# Altium schematic symbol library kmilo17pet-LT_PMIC_LT.SchLib: 2252 symbols (part 1 of 124)
Pins are listed as number, name and electrical type; pins without a type are passive.

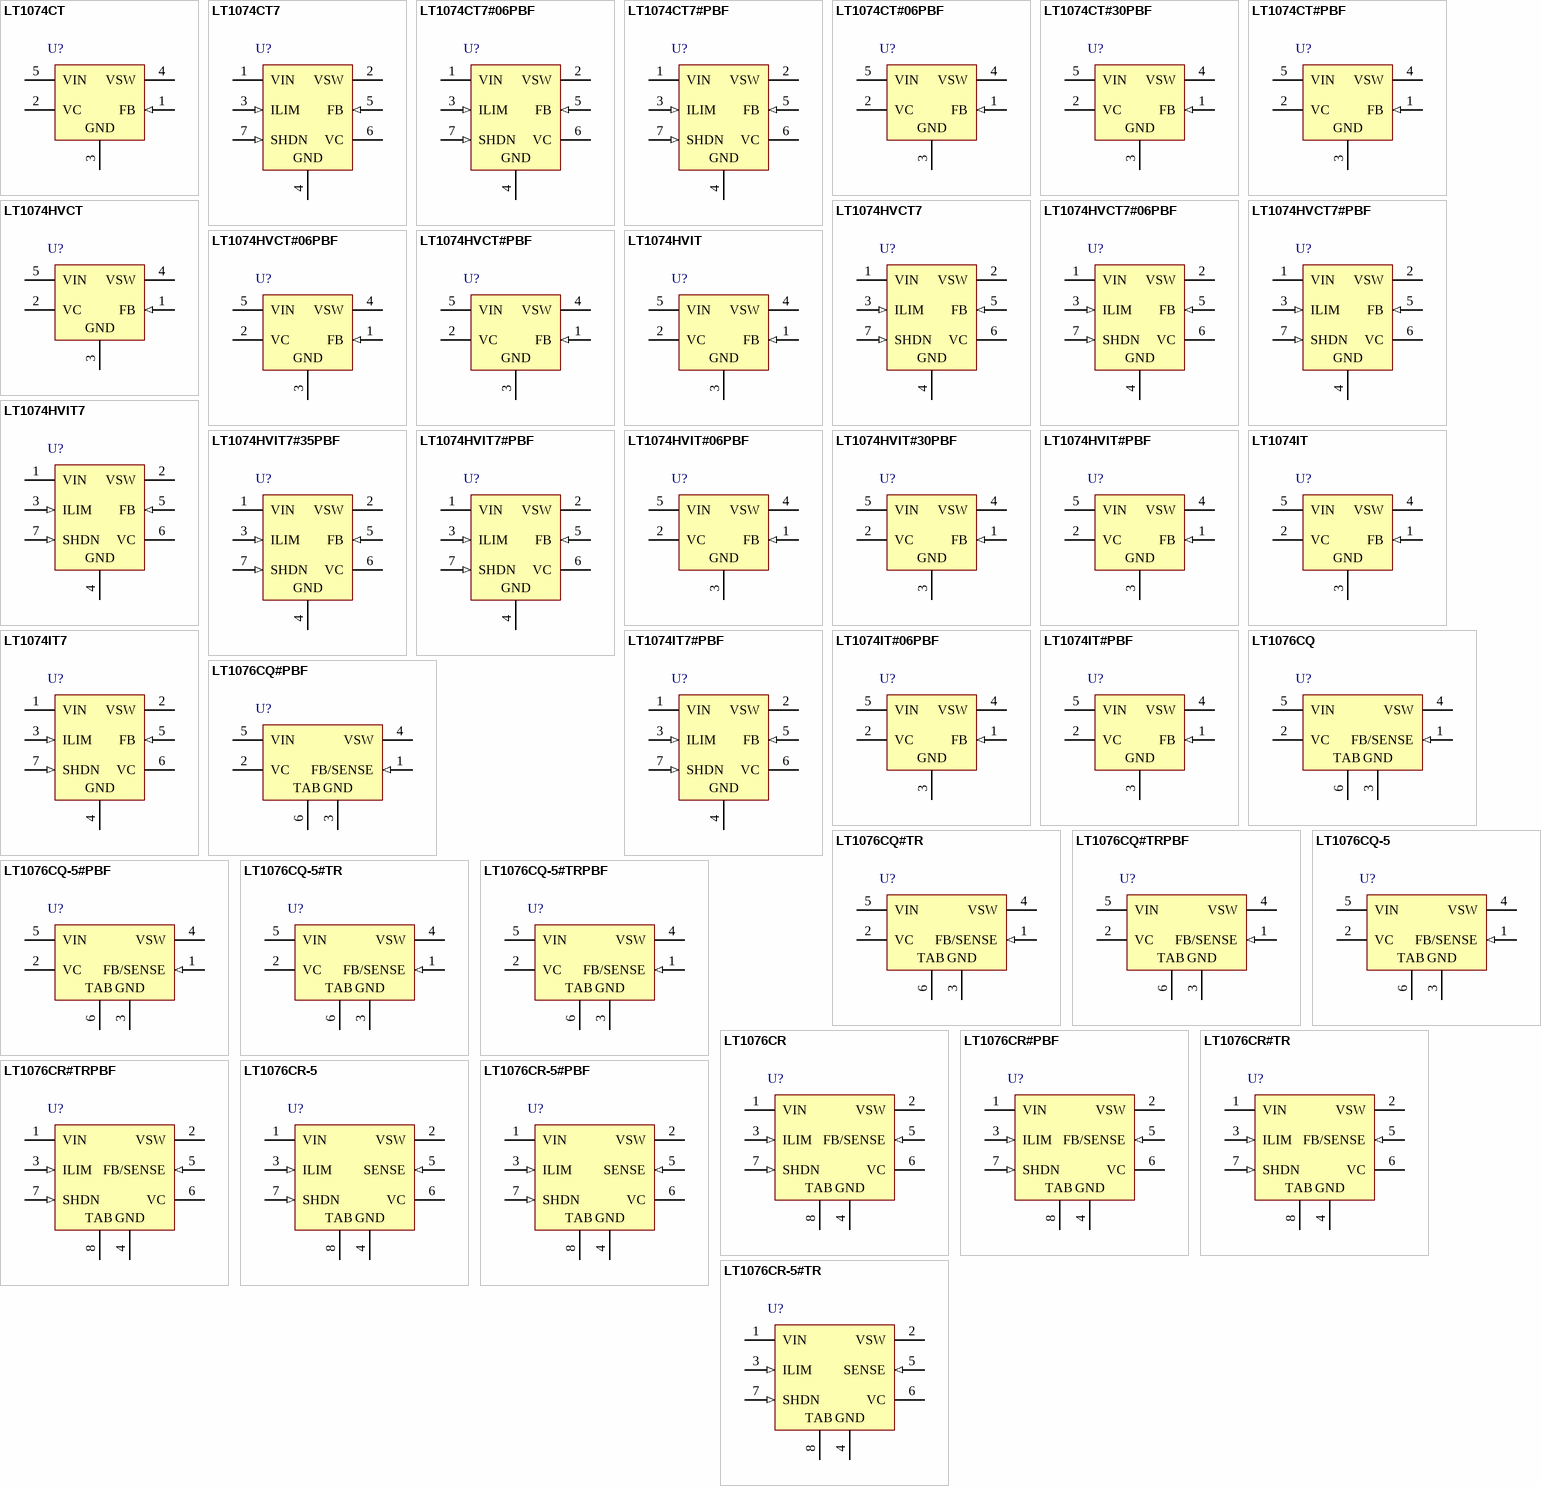
[diagram p0: symbols LT1074CT to LT1076CR-5#TR]

## LT1074CT
designator U?
Step-Down Switching Regulator, 5-pin FM (T-5), 0 to 70 degC; Manufacturer: Linear Technology; PartNumber: LT1074CT; Number of Outputs: 1; PackageReference: T-5; PackageDescription: 5-Pin Plastic TO-220 (Standard), Body 10.224 x 8.89 mm, Pitch 1.7 mm; Supplier 1: Digi-Key; Supplier Part Number 1: LT1074CT-ND; RoHS: FALSE
footprint LT-T-5-S (FM, 5-Leads, Body 10.55x4.6mm, Pitch 1.7mm)
pins: 1 FB (in) "The feedback pin is the inverting input of an error amplifier which controls the regulator output by adjusting duty cycle. The noninverting input is internally connected to a trimmed 2.21V reference. Input bias current is (See Datasheet)", 2 VC, 3 GND (power) "It might seem unusual to describe a ground pin, but in the case of regulators, the ground pin must be connected properly to ensure good load regulation. The internal reference voltage is referenced to the ground pin; so any (See Datasheet)", 4 VSW (power), 5 VIN (power) "The VIN pin is both the supply voltage for internal control circuitry and one end of the high current switch. It is important, especially at low input voltages, that this pin be bypassed with a low ESR, and low inductance (See Datasheet)"

## LT1074CT7
designator U?
Step-Down Switching Regulator, 7-pin FM (T7-7), 0 to 70 degC; Manufacturer: Linear Technology; PartNumber: LT1074CT7; Number of Outputs: 1; PackageReference: T7-7; PackageDescription: 7-Pin Plastic TO-220 (Straight Lead), Body 10.224 x 4.382 mm, Pitch 1.27 mm; Supplier 1: Digi-Key; Supplier Part Number 1: LT1074CT7-ND; RoHS: FALSE
footprint LT-T7-7-S_V (FM, 7-Leads, Body 10.55x4.6mm, Pitch 1.27mm)
pins: 1 VIN (power) "The VIN pin is both the supply voltage for internal control circuitry and one end of the high current switch.", 2 VSW (power), 3 ILIM (in) "The ILIM pin is used to reduce current limit below the preset value of 6.5A.", 4 GND (power) "It might seem unusual to describe a ground pin, but in the case of regulators, the ground pin must be connected properly to ensure good load regulation.", 5 FB (in) "The feedback pin is the inverting input of an error amplifier which controls the regulator output by adjusting duty cycle.", 6 VC, 7 SHDN (in) "The shutdown pin is used for undervoltage lockout, micropower shutdown, soft-start, delayed start, or as a general purpose on/off control of the regulator output."

## LT1074CT7#06PBF
designator U?
Step-Down Switching Regulator, 7-pin FM (T7-7), 0 to 70 degC, Pb-Free; Manufacturer: Linear Technology; PartNumber: LT1074CT7#06PBF; Number of Outputs: 1; PackageReference: T7-7; PackageDescription: 7-Pin Plastic TO-220 (Straight Lead), Body 10.224 x 4.382 mm, Pitch 1.27 mm; Supplier 1: Digi-Key; Supplier Part Number 1: LT1074CT7#06PBF-ND; RoHS: TRUE
footprint LT-T7-7-S_V (FM, 7-Leads, Body 10.55x4.6mm, Pitch 1.27mm)
pins: 1 VIN (power) "The VIN pin is both the supply voltage for internal control circuitry and one end of the high current switch.", 2 VSW (power), 3 ILIM (in) "The ILIM pin is used to reduce current limit below the preset value of 6.5A.", 4 GND (power) "It might seem unusual to describe a ground pin, but in the case of regulators, the ground pin must be connected properly to ensure good load regulation.", 5 FB (in) "The feedback pin is the inverting input of an error amplifier which controls the regulator output by adjusting duty cycle.", 6 VC, 7 SHDN (in) "The shutdown pin is used for undervoltage lockout, micropower shutdown, soft-start, delayed start, or as a general purpose on/off control of the regulator output."

## LT1074CT7#PBF
designator U?
Step-Down Switching Regulator, 7-pin FM (T7-7), 0 to 70 degC, Pb-Free; Manufacturer: Linear Technology; PartNumber: LT1074CT7#PBF; Number of Outputs: 1; PackageReference: T7-7; PackageDescription: 7-Pin Plastic TO-220 (Straight Lead), Body 10.224 x 4.382 mm, Pitch 1.27 mm; Supplier 1: Digi-Key; Supplier Part Number 1: LT1074CT7#PBF-ND; RoHS: TRUE
footprint LT-T7-7-S_V (FM, 7-Leads, Body 10.55x4.6mm, Pitch 1.27mm)
pins: 1 VIN (power) "The VIN pin is both the supply voltage for internal control circuitry and one end of the high current switch.", 2 VSW (power), 3 ILIM (in) "The ILIM pin is used to reduce current limit below the preset value of 6.5A.", 4 GND (power) "It might seem unusual to describe a ground pin, but in the case of regulators, the ground pin must be connected properly to ensure good load regulation.", 5 FB (in) "The feedback pin is the inverting input of an error amplifier which controls the regulator output by adjusting duty cycle.", 6 VC, 7 SHDN (in) "The shutdown pin is used for undervoltage lockout, micropower shutdown, soft-start, delayed start, or as a general purpose on/off control of the regulator output."

## LT1074CT#06PBF
designator U?
Step-Down Switching Regulator, 5-pin FM (T-5), 0 to 70 degC, Pb-Free; Manufacturer: Linear Technology; PartNumber: LT1074CT#06PBF; Number of Outputs: 1; PackageReference: T-5; PackageDescription: 5-Pin Plastic TO-220 (Standard), Body 10.224 x 8.89 mm, Pitch 1.7 mm; Supplier 1: Digi-Key; Supplier Part Number 1: LT1074CT#06PBF-ND; RoHS: TRUE
footprint LT-T-5-S (FM, 5-Leads, Body 10.55x4.6mm, Pitch 1.7mm)
pins: 1 FB (in) "The feedback pin is the inverting input of an error amplifier which controls the regulator output by adjusting duty cycle. The noninverting input is internally connected to a trimmed 2.21V reference. Input bias current is (See Datasheet)", 2 VC, 3 GND (power) "It might seem unusual to describe a ground pin, but in the case of regulators, the ground pin must be connected properly to ensure good load regulation. The internal reference voltage is referenced to the ground pin; so any (See Datasheet)", 4 VSW (power), 5 VIN (power) "The VIN pin is both the supply voltage for internal control circuitry and one end of the high current switch. It is important, especially at low input voltages, that this pin be bypassed with a low ESR, and low inductance (See Datasheet)"

## LT1074CT#30PBF
designator U?
Step-Down Switching Regulator, 5-pin FM (T-5), 0 to 70 degC, Pb-Free; Manufacturer: Linear Technology; PartNumber: LT1074CT#30PBF; Number of Outputs: 1; PackageReference: T-5; PackageDescription: 5-Pin Plastic TO-220 (Standard), Body 10.224 x 8.89 mm, Pitch 1.7 mm; Supplier 1: Digi-Key; Supplier Part Number 1: LT1074CT#30PBF-ND; RoHS: TRUE
footprint LT-T-5-S (FM, 5-Leads, Body 10.55x4.6mm, Pitch 1.7mm)
pins: 1 FB (in) "The feedback pin is the inverting input of an error amplifier which controls the regulator output by adjusting duty cycle. The noninverting input is internally connected to a trimmed 2.21V reference. Input bias current is (See Datasheet)", 2 VC, 3 GND (power) "It might seem unusual to describe a ground pin, but in the case of regulators, the ground pin must be connected properly to ensure good load regulation. The internal reference voltage is referenced to the ground pin; so any (See Datasheet)", 4 VSW (power), 5 VIN (power) "The VIN pin is both the supply voltage for internal control circuitry and one end of the high current switch. It is important, especially at low input voltages, that this pin be bypassed with a low ESR, and low inductance (See Datasheet)"

## LT1074CT#PBF
designator U?
Step-Down Switching Regulator, 5-pin FM (T-5), 0 to 70 degC, Pb-Free; Manufacturer: Linear Technology; PartNumber: LT1074CT#PBF; Number of Outputs: 1; PackageReference: T-5; PackageDescription: 5-Pin Plastic TO-220 (Standard), Body 10.224 x 8.89 mm, Pitch 1.7 mm; Supplier 1: Digi-Key; Supplier Part Number 1: LT1074CT#PBF-ND; RoHS: TRUE
footprint LT-T-5-S (FM, 5-Leads, Body 10.55x4.6mm, Pitch 1.7mm)
pins: 1 FB (in) "The feedback pin is the inverting input of an error amplifier which controls the regulator output by adjusting duty cycle. The noninverting input is internally connected to a trimmed 2.21V reference. Input bias current is (See Datasheet)", 2 VC, 3 GND (power) "It might seem unusual to describe a ground pin, but in the case of regulators, the ground pin must be connected properly to ensure good load regulation. The internal reference voltage is referenced to the ground pin; so any (See Datasheet)", 4 VSW (power), 5 VIN (power) "The VIN pin is both the supply voltage for internal control circuitry and one end of the high current switch. It is important, especially at low input voltages, that this pin be bypassed with a low ESR, and low inductance (See Datasheet)"

## LT1074HVCT
designator U?
Step-Down Switching Regulator, 5-pin FM (T-5), 0 to 70 degC; Manufacturer: Linear Technology; PartNumber: LT1074HVCT; Number of Outputs: 1; PackageReference: T-5; PackageDescription: 5-Pin Plastic TO-220 (Standard), Body 10.224 x 8.89 mm, Pitch 1.7 mm; Supplier 1: Digi-Key; Supplier Part Number 1: LT1074HVCT-ND; RoHS: FALSE
footprint LT-T-5-S (FM, 5-Leads, Body 10.55x4.6mm, Pitch 1.7mm)
pins: 1 FB (in) "The feedback pin is the inverting input of an error amplifier which controls the regulator output by adjusting duty cycle. The noninverting input is internally connected to a trimmed 2.21V reference. Input bias current is (See Datasheet)", 2 VC, 3 GND (power) "It might seem unusual to describe a ground pin, but in the case of regulators, the ground pin must be connected properly to ensure good load regulation. The internal reference voltage is referenced to the ground pin; so any (See Datasheet)", 4 VSW (power), 5 VIN (power) "The VIN pin is both the supply voltage for internal control circuitry and one end of the high current switch. It is important, especially at low input voltages, that this pin be bypassed with a low ESR, and low inductance (See Datasheet)"

## LT1074HVCT7
designator U?
Step-Down Switching Regulator, 7-pin FM (T7-7), 0 to 70 degC; Manufacturer: Linear Technology; PartNumber: LT1074HVCT7; Number of Outputs: 1; PackageReference: T7-7; PackageDescription: 7-Pin Plastic TO-220 (Straight Lead), Body 10.224 x 4.382 mm, Pitch 1.27 mm; Supplier 1: Digi-Key; Supplier Part Number 1: LT1074HVCT7-ND; RoHS: FALSE
footprint LT-T7-7-S_V (FM, 7-Leads, Body 10.55x4.6mm, Pitch 1.27mm)
pins: 1 VIN (power) "The VIN pin is both the supply voltage for internal control circuitry and one end of the high current switch.", 2 VSW (power), 3 ILIM (in) "The ILIM pin is used to reduce current limit below the preset value of 6.5A.", 4 GND (power) "It might seem unusual to describe a ground pin, but in the case of regulators, the ground pin must be connected properly to ensure good load regulation.", 5 FB (in) "The feedback pin is the inverting input of an error amplifier which controls the regulator output by adjusting duty cycle.", 6 VC, 7 SHDN (in) "The shutdown pin is used for undervoltage lockout, micropower shutdown, soft-start, delayed start, or as a general purpose on/off control of the regulator output."

## LT1074HVCT7#06PBF
designator U?
Step-Down Switching Regulator, 7-pin FM (T7-7), 0 to 70 degC, Pb-Free; Manufacturer: Linear Technology; PartNumber: LT1074HVCT7#06PBF; Number of Outputs: 1; PackageReference: T7-7; PackageDescription: 7-Pin Plastic TO-220 (Straight Lead), Body 10.224 x 4.382 mm, Pitch 1.27 mm; Supplier 1: Digi-Key; Supplier Part Number 1: LT1074HVCT7#06PBF-ND; RoHS: TRUE
footprint LT-T7-7-S_V (FM, 7-Leads, Body 10.55x4.6mm, Pitch 1.27mm)
pins: 1 VIN (power) "The VIN pin is both the supply voltage for internal control circuitry and one end of the high current switch.", 2 VSW (power), 3 ILIM (in) "The ILIM pin is used to reduce current limit below the preset value of 6.5A.", 4 GND (power) "It might seem unusual to describe a ground pin, but in the case of regulators, the ground pin must be connected properly to ensure good load regulation.", 5 FB (in) "The feedback pin is the inverting input of an error amplifier which controls the regulator output by adjusting duty cycle.", 6 VC, 7 SHDN (in) "The shutdown pin is used for undervoltage lockout, micropower shutdown, soft-start, delayed start, or as a general purpose on/off control of the regulator output."

## LT1074HVCT7#PBF
designator U?
Step-Down Switching Regulator, 7-pin FM (T7-7), 0 to 70 degC, Pb-Free; Manufacturer: Linear Technology; PartNumber: LT1074HVCT7#PBF; Number of Outputs: 1; PackageReference: T7-7; PackageDescription: 7-Pin Plastic TO-220 (Straight Lead), Body 10.224 x 4.382 mm, Pitch 1.27 mm; Supplier 1: Digi-Key; Supplier Part Number 1: LT1074HVCT7#PBF-ND; RoHS: TRUE
footprint LT-T7-7-S_V (FM, 7-Leads, Body 10.55x4.6mm, Pitch 1.27mm)
pins: 1 VIN (power) "The VIN pin is both the supply voltage for internal control circuitry and one end of the high current switch.", 2 VSW (power), 3 ILIM (in) "The ILIM pin is used to reduce current limit below the preset value of 6.5A.", 4 GND (power) "It might seem unusual to describe a ground pin, but in the case of regulators, the ground pin must be connected properly to ensure good load regulation.", 5 FB (in) "The feedback pin is the inverting input of an error amplifier which controls the regulator output by adjusting duty cycle.", 6 VC, 7 SHDN (in) "The shutdown pin is used for undervoltage lockout, micropower shutdown, soft-start, delayed start, or as a general purpose on/off control of the regulator output."

## LT1074HVCT#06PBF
designator U?
Step-Down Switching Regulator, 5-pin FM (T-5), 0 to 70 degC, Pb-Free; Manufacturer: Linear Technology; PartNumber: LT1074HVCT#06PBF; Number of Outputs: 1; PackageReference: T-5; PackageDescription: 5-Pin Plastic TO-220 (Standard), Body 10.224 x 8.89 mm, Pitch 1.7 mm; Supplier 1: Digi-Key; Supplier Part Number 1: LT1074HVCT#06PBF-ND; RoHS: TRUE
footprint LT-T-5-S (FM, 5-Leads, Body 10.55x4.6mm, Pitch 1.7mm)
pins: 1 FB (in) "The feedback pin is the inverting input of an error amplifier which controls the regulator output by adjusting duty cycle. The noninverting input is internally connected to a trimmed 2.21V reference. Input bias current is (See Datasheet)", 2 VC, 3 GND (power) "It might seem unusual to describe a ground pin, but in the case of regulators, the ground pin must be connected properly to ensure good load regulation. The internal reference voltage is referenced to the ground pin; so any (See Datasheet)", 4 VSW (power), 5 VIN (power) "The VIN pin is both the supply voltage for internal control circuitry and one end of the high current switch. It is important, especially at low input voltages, that this pin be bypassed with a low ESR, and low inductance (See Datasheet)"

## LT1074HVCT#PBF
designator U?
Step-Down Switching Regulator, 5-pin FM (T-5), 0 to 70 degC, Pb-Free; Manufacturer: Linear Technology; PartNumber: LT1074HVCT#PBF; Number of Outputs: 1; PackageReference: T-5; PackageDescription: 5-Pin Plastic TO-220 (Standard), Body 10.224 x 8.89 mm, Pitch 1.7 mm; Supplier 1: Digi-Key; Supplier Part Number 1: LT1074HVCT#PBF-ND; RoHS: TRUE
footprint LT-T-5-S (FM, 5-Leads, Body 10.55x4.6mm, Pitch 1.7mm)
pins: 1 FB (in) "The feedback pin is the inverting input of an error amplifier which controls the regulator output by adjusting duty cycle. The noninverting input is internally connected to a trimmed 2.21V reference. Input bias current is (See Datasheet)", 2 VC, 3 GND (power) "It might seem unusual to describe a ground pin, but in the case of regulators, the ground pin must be connected properly to ensure good load regulation. The internal reference voltage is referenced to the ground pin; so any (See Datasheet)", 4 VSW (power), 5 VIN (power) "The VIN pin is both the supply voltage for internal control circuitry and one end of the high current switch. It is important, especially at low input voltages, that this pin be bypassed with a low ESR, and low inductance (See Datasheet)"

## LT1074HVIT
designator U?
Step-Down Switching Regulator, 5-pin FM (T-5), -40 to 85 degC; Manufacturer: Linear Technology; PartNumber: LT1074HVIT; Number of Outputs: 1; PackageReference: T-5; PackageDescription: 5-Pin Plastic TO-220 (Standard), Body 10.224 x 8.89 mm, Pitch 1.7 mm; Supplier 1: Digi-Key; Supplier Part Number 1: LT1074HVIT-ND; RoHS: FALSE
footprint LT-T-5-S (FM, 5-Leads, Body 10.55x4.6mm, Pitch 1.7mm)
pins: 1 FB (in) "The feedback pin is the inverting input of an error amplifier which controls the regulator output by adjusting duty cycle. The noninverting input is internally connected to a trimmed 2.21V reference. Input bias current is (See Datasheet)", 2 VC, 3 GND (power) "It might seem unusual to describe a ground pin, but in the case of regulators, the ground pin must be connected properly to ensure good load regulation. The internal reference voltage is referenced to the ground pin; so any (See Datasheet)", 4 VSW (power), 5 VIN (power) "The VIN pin is both the supply voltage for internal control circuitry and one end of the high current switch. It is important, especially at low input voltages, that this pin be bypassed with a low ESR, and low inductance (See Datasheet)"

## LT1074HVIT7
designator U?
Step-Down Switching Regulator, 7-pin FM (T7-7), -40 to 85 degC; Manufacturer: Linear Technology; PartNumber: LT1074HVIT7; Number of Outputs: 1; PackageReference: T7-7; PackageDescription: 7-Pin Plastic TO-220 (Straight Lead), Body 10.224 x 4.382 mm, Pitch 1.27 mm; Supplier 1: Digi-Key; Supplier Part Number 1: LT1074HVIT7-ND; RoHS: FALSE
footprint LT-T7-7-S_V (FM, 7-Leads, Body 10.55x4.6mm, Pitch 1.27mm)
pins: 1 VIN (power) "The VIN pin is both the supply voltage for internal control circuitry and one end of the high current switch.", 2 VSW (power), 3 ILIM (in) "The ILIM pin is used to reduce current limit below the preset value of 6.5A.", 4 GND (power) "It might seem unusual to describe a ground pin, but in the case of regulators, the ground pin must be connected properly to ensure good load regulation.", 5 FB (in) "The feedback pin is the inverting input of an error amplifier which controls the regulator output by adjusting duty cycle.", 6 VC, 7 SHDN (in) "The shutdown pin is used for undervoltage lockout, micropower shutdown, soft-start, delayed start, or as a general purpose on/off control of the regulator output."

## LT1074HVIT7#35PBF
designator U?
Step-Down Switching Regulator, 7-pin FM (T7-7), -40 to 85 degC, Pb-Free; Manufacturer: Linear Technology; PartNumber: LT1074HVIT7#35PBF; Number of Outputs: 1; PackageReference: T7-7; PackageDescription: 7-Pin Plastic TO-220 (Straight Lead), Body 10.224 x 4.382 mm, Pitch 1.27 mm; Supplier 1: Digi-Key; Supplier Part Number 1: LT1074HVIT7#35PBF-ND; RoHS: TRUE
footprint LT-T7-7-S_V (FM, 7-Leads, Body 10.55x4.6mm, Pitch 1.27mm)
pins: 1 VIN (power) "The VIN pin is both the supply voltage for internal control circuitry and one end of the high current switch.", 2 VSW (power), 3 ILIM (in) "The ILIM pin is used to reduce current limit below the preset value of 6.5A.", 4 GND (power) "It might seem unusual to describe a ground pin, but in the case of regulators, the ground pin must be connected properly to ensure good load regulation.", 5 FB (in) "The feedback pin is the inverting input of an error amplifier which controls the regulator output by adjusting duty cycle.", 6 VC, 7 SHDN (in) "The shutdown pin is used for undervoltage lockout, micropower shutdown, soft-start, delayed start, or as a general purpose on/off control of the regulator output."

## LT1074HVIT7#PBF
designator U?
Step-Down Switching Regulator, 7-pin FM (T7-7), -40 to 85 degC, Pb-Free; Manufacturer: Linear Technology; PartNumber: LT1074HVIT7#PBF; Number of Outputs: 1; PackageReference: T7-7; PackageDescription: 7-Pin Plastic TO-220 (Straight Lead), Body 10.224 x 4.382 mm, Pitch 1.27 mm; Supplier 1: Digi-Key; Supplier Part Number 1: LT1074HVIT7#PBF-ND; RoHS: TRUE
footprint LT-T7-7-S_V (FM, 7-Leads, Body 10.55x4.6mm, Pitch 1.27mm)
pins: 1 VIN (power) "The VIN pin is both the supply voltage for internal control circuitry and one end of the high current switch.", 2 VSW (power), 3 ILIM (in) "The ILIM pin is used to reduce current limit below the preset value of 6.5A.", 4 GND (power) "It might seem unusual to describe a ground pin, but in the case of regulators, the ground pin must be connected properly to ensure good load regulation.", 5 FB (in) "The feedback pin is the inverting input of an error amplifier which controls the regulator output by adjusting duty cycle.", 6 VC, 7 SHDN (in) "The shutdown pin is used for undervoltage lockout, micropower shutdown, soft-start, delayed start, or as a general purpose on/off control of the regulator output."

## LT1074HVIT#06PBF
designator U?
Step-Down Switching Regulator, 5-pin FM (T-5), -40 to 85 degC, Pb-Free; Manufacturer: Linear Technology; PartNumber: LT1074HVIT#06PBF; Number of Outputs: 1; PackageReference: T-5; PackageDescription: 5-Pin Plastic TO-220 (Standard), Body 10.224 x 8.89 mm, Pitch 1.7 mm; Supplier 1: Digi-Key; Supplier Part Number 1: LT1074HVIT#06PBF-ND; RoHS: TRUE
footprint LT-T-5-S (FM, 5-Leads, Body 10.55x4.6mm, Pitch 1.7mm)
pins: 1 FB (in) "The feedback pin is the inverting input of an error amplifier which controls the regulator output by adjusting duty cycle. The noninverting input is internally connected to a trimmed 2.21V reference. Input bias current is (See Datasheet)", 2 VC, 3 GND (power) "It might seem unusual to describe a ground pin, but in the case of regulators, the ground pin must be connected properly to ensure good load regulation. The internal reference voltage is referenced to the ground pin; so any (See Datasheet)", 4 VSW (power), 5 VIN (power) "The VIN pin is both the supply voltage for internal control circuitry and one end of the high current switch. It is important, especially at low input voltages, that this pin be bypassed with a low ESR, and low inductance (See Datasheet)"

## LT1074HVIT#30PBF
designator U?
Step-Down Switching Regulator, 5-pin FM (T-5), -40 to 85 degC, Pb-Free; Manufacturer: Linear Technology; PartNumber: LT1074HVIT#30PBF; Number of Outputs: 1; PackageReference: T-5; PackageDescription: 5-Pin Plastic TO-220 (Standard), Body 10.224 x 8.89 mm, Pitch 1.7 mm; Supplier 1: Digi-Key; Supplier Part Number 1: LT1074HVIT#30PBF-ND; RoHS: TRUE
footprint LT-T-5-S (FM, 5-Leads, Body 10.55x4.6mm, Pitch 1.7mm)
pins: 1 FB (in) "The feedback pin is the inverting input of an error amplifier which controls the regulator output by adjusting duty cycle. The noninverting input is internally connected to a trimmed 2.21V reference. Input bias current is (See Datasheet)", 2 VC, 3 GND (power) "It might seem unusual to describe a ground pin, but in the case of regulators, the ground pin must be connected properly to ensure good load regulation. The internal reference voltage is referenced to the ground pin; so any (See Datasheet)", 4 VSW (power), 5 VIN (power) "The VIN pin is both the supply voltage for internal control circuitry and one end of the high current switch. It is important, especially at low input voltages, that this pin be bypassed with a low ESR, and low inductance (See Datasheet)"

## LT1074HVIT#PBF
designator U?
Step-Down Switching Regulator, 5-pin FM (T-5), -40 to 85 degC, Pb-Free; Manufacturer: Linear Technology; PartNumber: LT1074HVIT#PBF; Number of Outputs: 1; PackageReference: T-5; PackageDescription: 5-Pin Plastic TO-220 (Standard), Body 10.224 x 8.89 mm, Pitch 1.7 mm; Supplier 1: Digi-Key; Supplier Part Number 1: LT1074HVIT#PBF-ND; RoHS: TRUE
footprint LT-T-5-S (FM, 5-Leads, Body 10.55x4.6mm, Pitch 1.7mm)
pins: 1 FB (in) "The feedback pin is the inverting input of an error amplifier which controls the regulator output by adjusting duty cycle. The noninverting input is internally connected to a trimmed 2.21V reference. Input bias current is (See Datasheet)", 2 VC, 3 GND (power) "It might seem unusual to describe a ground pin, but in the case of regulators, the ground pin must be connected properly to ensure good load regulation. The internal reference voltage is referenced to the ground pin; so any (See Datasheet)", 4 VSW (power), 5 VIN (power) "The VIN pin is both the supply voltage for internal control circuitry and one end of the high current switch. It is important, especially at low input voltages, that this pin be bypassed with a low ESR, and low inductance (See Datasheet)"

## LT1074IT
designator U?
Step-Down Switching Regulator, 5-pin FM (T-5), -40 to 85 degC; Manufacturer: Linear Technology; PartNumber: LT1074IT; Number of Outputs: 1; PackageReference: T-5; PackageDescription: 5-Pin Plastic TO-220 (Standard), Body 10.224 x 8.89 mm, Pitch 1.7 mm; Supplier 1: Digi-Key; Supplier Part Number 1: LT1074IT-ND; RoHS: FALSE
footprint LT-T-5-S (FM, 5-Leads, Body 10.55x4.6mm, Pitch 1.7mm)
pins: 1 FB (in) "The feedback pin is the inverting input of an error amplifier which controls the regulator output by adjusting duty cycle. The noninverting input is internally connected to a trimmed 2.21V reference. Input bias current is (See Datasheet)", 2 VC, 3 GND (power) "It might seem unusual to describe a ground pin, but in the case of regulators, the ground pin must be connected properly to ensure good load regulation. The internal reference voltage is referenced to the ground pin; so any (See Datasheet)", 4 VSW (power), 5 VIN (power) "The VIN pin is both the supply voltage for internal control circuitry and one end of the high current switch. It is important, especially at low input voltages, that this pin be bypassed with a low ESR, and low inductance (See Datasheet)"

## LT1074IT7
designator U?
Step-Down Switching Regulator, 7-pin FM (T7-7), -40 to 85 degC; Manufacturer: Linear Technology; PartNumber: LT1074IT7; Number of Outputs: 1; PackageReference: T7-7; PackageDescription: 7-Pin Plastic TO-220 (Straight Lead), Body 10.224 x 4.382 mm, Pitch 1.27 mm; Supplier 1: Digi-Key; Supplier Part Number 1: LT1074IT7-ND; RoHS: FALSE
footprint LT-T7-7-S_V (FM, 7-Leads, Body 10.55x4.6mm, Pitch 1.27mm)
pins: 1 VIN (power) "The VIN pin is both the supply voltage for internal control circuitry and one end of the high current switch.", 2 VSW (power), 3 ILIM (in) "The ILIM pin is used to reduce current limit below the preset value of 6.5A.", 4 GND (power) "It might seem unusual to describe a ground pin, but in the case of regulators, the ground pin must be connected properly to ensure good load regulation.", 5 FB (in) "The feedback pin is the inverting input of an error amplifier which controls the regulator output by adjusting duty cycle.", 6 VC, 7 SHDN (in) "The shutdown pin is used for undervoltage lockout, micropower shutdown, soft-start, delayed start, or as a general purpose on/off control of the regulator output."

## LT1074IT7#PBF
designator U?
Step-Down Switching Regulator, 7-pin FM (T7-7), -40 to 85 degC, Pb-Free; Manufacturer: Linear Technology; PartNumber: LT1074IT7#PBF; Number of Outputs: 1; PackageReference: T7-7; PackageDescription: 7-Pin Plastic TO-220 (Straight Lead), Body 10.224 x 4.382 mm, Pitch 1.27 mm; Supplier 1: Digi-Key; Supplier Part Number 1: LT1074IT7#PBF-ND; RoHS: TRUE
footprint LT-T7-7-S_V (FM, 7-Leads, Body 10.55x4.6mm, Pitch 1.27mm)
pins: 1 VIN (power) "The VIN pin is both the supply voltage for internal control circuitry and one end of the high current switch.", 2 VSW (power), 3 ILIM (in) "The ILIM pin is used to reduce current limit below the preset value of 6.5A.", 4 GND (power) "It might seem unusual to describe a ground pin, but in the case of regulators, the ground pin must be connected properly to ensure good load regulation.", 5 FB (in) "The feedback pin is the inverting input of an error amplifier which controls the regulator output by adjusting duty cycle.", 6 VC, 7 SHDN (in) "The shutdown pin is used for undervoltage lockout, micropower shutdown, soft-start, delayed start, or as a general purpose on/off control of the regulator output."

## LT1074IT#06PBF
designator U?
Step-Down Switching Regulator, 5-pin FM (T-5), -40 to 85 degC, Pb-Free; Manufacturer: Linear Technology; PartNumber: LT1074IT#06PBF; Number of Outputs: 1; PackageReference: T-5; PackageDescription: 5-Pin Plastic TO-220 (Standard), Body 10.224 x 8.89 mm, Pitch 1.7 mm; Supplier 1: Digi-Key; Supplier Part Number 1: LT1074IT#06PBF-ND; RoHS: TRUE
footprint LT-T-5-S (FM, 5-Leads, Body 10.55x4.6mm, Pitch 1.7mm)
pins: 1 FB (in) "The feedback pin is the inverting input of an error amplifier which controls the regulator output by adjusting duty cycle. The noninverting input is internally connected to a trimmed 2.21V reference. Input bias current is (See Datasheet)", 2 VC, 3 GND (power) "It might seem unusual to describe a ground pin, but in the case of regulators, the ground pin must be connected properly to ensure good load regulation. The internal reference voltage is referenced to the ground pin; so any (See Datasheet)", 4 VSW (power), 5 VIN (power) "The VIN pin is both the supply voltage for internal control circuitry and one end of the high current switch. It is important, especially at low input voltages, that this pin be bypassed with a low ESR, and low inductance (See Datasheet)"

## LT1074IT#PBF
designator U?
Step-Down Switching Regulator, 5-pin FM (T-5), -40 to 85 degC, Pb-Free; Manufacturer: Linear Technology; PartNumber: LT1074IT#PBF; Number of Outputs: 1; PackageReference: T-5; PackageDescription: 5-Pin Plastic TO-220 (Standard), Body 10.224 x 8.89 mm, Pitch 1.7 mm; Supplier 1: Digi-Key; Supplier Part Number 1: LT1074IT#PBF-ND; RoHS: TRUE
footprint LT-T-5-S (FM, 5-Leads, Body 10.55x4.6mm, Pitch 1.7mm)
pins: 1 FB (in) "The feedback pin is the inverting input of an error amplifier which controls the regulator output by adjusting duty cycle. The noninverting input is internally connected to a trimmed 2.21V reference. Input bias current is (See Datasheet)", 2 VC, 3 GND (power) "It might seem unusual to describe a ground pin, but in the case of regulators, the ground pin must be connected properly to ensure good load regulation. The internal reference voltage is referenced to the ground pin; so any (See Datasheet)", 4 VSW (power), 5 VIN (power) "The VIN pin is both the supply voltage for internal control circuitry and one end of the high current switch. It is important, especially at low input voltages, that this pin be bypassed with a low ESR, and low inductance (See Datasheet)"

## LT1076CQ
designator U?
Step-Down Switching Regulator, 5-pin DPAK (Q-5), 0 to 70 degC; Manufacturer: Linear Technology; PartNumber: LT1076CQ; Number of Outputs: 1; PackageReference: Q-5; PackageDescription: 5-Pin Plastic DD Pak, Body 10.2235 x 8.89 mm, Pitch 1.702 mm; Supplier 1: Digi-Key; Supplier Part Number 1: LT1076CQ-ND; RoHS: FALSE
footprint LT-Q-5_N (DPAK, 5-Leads, Body 10.22x8.89mm, Pitch 1.702mm, IPC Medium Density)
footprint LT-Q-5_L (DPAK, 5-Leads, Body 10.22x8.89mm, Pitch 1.702mm, IPC High Density)
footprint LT-Q-5_M (DPAK, 5-Leads, Body 10.22x8.89mm, Pitch 1.702mm, IPC Low Density)
pins: 1 FB/SENSE (in), 2 VC, 3 GND (power) "It might seem unusual to describe a ground pin, but in the case of regulators, the ground pin must be connected properly to ensure good load regulation. The internal reference voltage is referenced to the ground pin; so any (See Datasheet)", 4 VSW (power), 5 VIN (power) "The VIN pin is both the supply voltage for internal control circuitry and one end of the high current switch. It is important, especially at low input voltages, that this pin be bypassed with a low ESR, and low inductance (See Datasheet)", 6 TAB (power) "It might seem unusual to describe a ground pin, but in the case of regulators, the ground pin must be connected properly to ensure good load regulation. The internal reference voltage is referenced to the ground pin; so any (See Datasheet)"

## LT1076CQ#PBF
designator U?
Step-Down Switching Regulator, 5-pin DPAK (Q-5), 0 to 70 degC, Pb-Free; Manufacturer: Linear Technology; PartNumber: LT1076CQ#PBF; Number of Outputs: 1; PackageReference: Q-5; PackageDescription: 5-Pin Plastic DD Pak, Body 10.2235 x 8.89 mm, Pitch 1.702 mm; Supplier 1: Digi-Key; Supplier Part Number 1: LT1076CQ#PBF-ND; RoHS: TRUE
footprint LT-Q-5_N (DPAK, 5-Leads, Body 10.22x8.89mm, Pitch 1.702mm, IPC Medium Density)
footprint LT-Q-5_L (DPAK, 5-Leads, Body 10.22x8.89mm, Pitch 1.702mm, IPC High Density)
footprint LT-Q-5_M (DPAK, 5-Leads, Body 10.22x8.89mm, Pitch 1.702mm, IPC Low Density)
pins: 1 FB/SENSE (in), 2 VC, 3 GND (power) "It might seem unusual to describe a ground pin, but in the case of regulators, the ground pin must be connected properly to ensure good load regulation. The internal reference voltage is referenced to the ground pin; so any (See Datasheet)", 4 VSW (power), 5 VIN (power) "The VIN pin is both the supply voltage for internal control circuitry and one end of the high current switch. It is important, especially at low input voltages, that this pin be bypassed with a low ESR, and low inductance (See Datasheet)", 6 TAB (power) "It might seem unusual to describe a ground pin, but in the case of regulators, the ground pin must be connected properly to ensure good load regulation. The internal reference voltage is referenced to the ground pin; so any (See Datasheet)"

## LT1076CQ#TR
designator U?
Step-Down Switching Regulator, 5-pin DPAK (Q-5), 0 to 70 degC, Tape and Reel; Manufacturer: Linear Technology; PartNumber: LT1076CQ#TR; Number of Outputs: 1; PackageReference: Q-5; PackageDescription: 5-Pin Plastic DD Pak, Body 10.2235 x 8.89 mm, Pitch 1.702 mm; Supplier 1: Digi-Key; Supplier Part Number 1: LT1076CQ#TR-ND; RoHS: FALSE
footprint LT-Q-5_N (DPAK, 5-Leads, Body 10.22x8.89mm, Pitch 1.702mm, IPC Medium Density)
footprint LT-Q-5_L (DPAK, 5-Leads, Body 10.22x8.89mm, Pitch 1.702mm, IPC High Density)
footprint LT-Q-5_M (DPAK, 5-Leads, Body 10.22x8.89mm, Pitch 1.702mm, IPC Low Density)
pins: 1 FB/SENSE (in), 2 VC, 3 GND (power) "It might seem unusual to describe a ground pin, but in the case of regulators, the ground pin must be connected properly to ensure good load regulation. The internal reference voltage is referenced to the ground pin; so any (See Datasheet)", 4 VSW (power), 5 VIN (power) "The VIN pin is both the supply voltage for internal control circuitry and one end of the high current switch. It is important, especially at low input voltages, that this pin be bypassed with a low ESR, and low inductance (See Datasheet)", 6 TAB (power) "It might seem unusual to describe a ground pin, but in the case of regulators, the ground pin must be connected properly to ensure good load regulation. The internal reference voltage is referenced to the ground pin; so any (See Datasheet)"

## LT1076CQ#TRPBF
designator U?
Step-Down Switching Regulator, 5-pin DPAK (Q-5), 0 to 70 degC, Pb-Free, Tape and Reel; Manufacturer: Linear Technology; PartNumber: LT1076CQ#TRPBF; Number of Outputs: 1; PackageReference: Q-5; PackageDescription: 5-Pin Plastic DD Pak, Body 10.2235 x 8.89 mm, Pitch 1.702 mm; Supplier 1: Digi-Key; Supplier Part Number 1: LT1076CQ#TRPBF-ND; RoHS: TRUE
footprint LT-Q-5_N (DPAK, 5-Leads, Body 10.22x8.89mm, Pitch 1.702mm, IPC Medium Density)
footprint LT-Q-5_L (DPAK, 5-Leads, Body 10.22x8.89mm, Pitch 1.702mm, IPC High Density)
footprint LT-Q-5_M (DPAK, 5-Leads, Body 10.22x8.89mm, Pitch 1.702mm, IPC Low Density)
pins: 1 FB/SENSE (in), 2 VC, 3 GND (power) "It might seem unusual to describe a ground pin, but in the case of regulators, the ground pin must be connected properly to ensure good load regulation. The internal reference voltage is referenced to the ground pin; so any (See Datasheet)", 4 VSW (power), 5 VIN (power) "The VIN pin is both the supply voltage for internal control circuitry and one end of the high current switch. It is important, especially at low input voltages, that this pin be bypassed with a low ESR, and low inductance (See Datasheet)", 6 TAB (power) "It might seem unusual to describe a ground pin, but in the case of regulators, the ground pin must be connected properly to ensure good load regulation. The internal reference voltage is referenced to the ground pin; so any (See Datasheet)"

## LT1076CQ-5
designator U?
Step-Down Switching Regulator, 5-pin DPAK (Q-5), 0 to 70 degC; Manufacturer: Linear Technology; PartNumber: LT1076CQ-5; Number of Outputs: 1; PackageReference: Q-5; PackageDescription: 5-Pin Plastic DD Pak, Body 10.2235 x 8.89 mm, Pitch 1.702 mm; Supplier 1: Digi-Key; Supplier Part Number 1: LT1076CQ-5-ND; RoHS: FALSE
footprint LT-Q-5_N (DPAK, 5-Leads, Body 10.22x8.89mm, Pitch 1.702mm, IPC Medium Density)
footprint LT-Q-5_L (DPAK, 5-Leads, Body 10.22x8.89mm, Pitch 1.702mm, IPC High Density)
footprint LT-Q-5_M (DPAK, 5-Leads, Body 10.22x8.89mm, Pitch 1.702mm, IPC Low Density)
pins: 1 FB/SENSE (in), 2 VC, 3 GND (power), 4 VSW (power), 5 VIN (power), 6 TAB

## LT1076CQ-5#PBF
designator U?
Step-Down Switching Regulator, 5-pin DPAK (Q-5), 0 to 70 degC, Pb-Free; Manufacturer: Linear Technology; PartNumber: LT1076CQ-5#PBF; Number of Outputs: 1; PackageReference: Q-5; PackageDescription: 5-Pin Plastic DD Pak, Body 10.2235 x 8.89 mm, Pitch 1.702 mm; Supplier 1: Digi-Key; Supplier Part Number 1: LT1076CQ-5#PBF-ND; RoHS: TRUE
footprint LT-Q-5_N (DPAK, 5-Leads, Body 10.22x8.89mm, Pitch 1.702mm, IPC Medium Density)
footprint LT-Q-5_L (DPAK, 5-Leads, Body 10.22x8.89mm, Pitch 1.702mm, IPC High Density)
footprint LT-Q-5_M (DPAK, 5-Leads, Body 10.22x8.89mm, Pitch 1.702mm, IPC Low Density)
pins: 1 FB/SENSE (in), 2 VC, 3 GND (power), 4 VSW (power), 5 VIN (power), 6 TAB

## LT1076CQ-5#TR
designator U?
Step-Down Switching Regulator, 5-pin DPAK (Q-5), 0 to 70 degC, Tape and Reel; Manufacturer: Linear Technology; PartNumber: LT1076CQ-5#TR; Number of Outputs: 1; PackageReference: Q-5; PackageDescription: 5-Pin Plastic DD Pak, Body 10.2235 x 8.89 mm, Pitch 1.702 mm; Supplier 1: Digi-Key; Supplier Part Number 1: LT1076CQ-5#TR-ND; RoHS: FALSE
footprint LT-Q-5_N (DPAK, 5-Leads, Body 10.22x8.89mm, Pitch 1.702mm, IPC Medium Density)
footprint LT-Q-5_L (DPAK, 5-Leads, Body 10.22x8.89mm, Pitch 1.702mm, IPC High Density)
footprint LT-Q-5_M (DPAK, 5-Leads, Body 10.22x8.89mm, Pitch 1.702mm, IPC Low Density)
pins: 1 FB/SENSE (in), 2 VC, 3 GND (power), 4 VSW (power), 5 VIN (power), 6 TAB

## LT1076CQ-5#TRPBF
designator U?
Step-Down Switching Regulator, 5-pin DPAK (Q-5), 0 to 70 degC, Pb-Free, Tape and Reel; Manufacturer: Linear Technology; PartNumber: LT1076CQ-5#TRPBF; Number of Outputs: 1; PackageReference: Q-5; PackageDescription: 5-Pin Plastic DD Pak, Body 10.2235 x 8.89 mm, Pitch 1.702 mm; Supplier 1: Digi-Key; Supplier Part Number 1: LT1076CQ-5#TRPBF-ND; RoHS: TRUE
footprint LT-Q-5_N (DPAK, 5-Leads, Body 10.22x8.89mm, Pitch 1.702mm, IPC Medium Density)
footprint LT-Q-5_L (DPAK, 5-Leads, Body 10.22x8.89mm, Pitch 1.702mm, IPC High Density)
footprint LT-Q-5_M (DPAK, 5-Leads, Body 10.22x8.89mm, Pitch 1.702mm, IPC Low Density)
pins: 1 FB/SENSE (in), 2 VC, 3 GND (power), 4 VSW (power), 5 VIN (power), 6 TAB

## LT1076CR
designator U?
Step-Down Switching Regulator, 7-pin DPAK (R-7), 0 to 70 degC; Manufacturer: Linear Technology; PartNumber: LT1076CR; Number of Outputs: 1; PackageReference: R-7; PackageDescription: 7-Pin Plastic DD Pak, Body 10.2235 x 8.89 mm, Pitch 1.27 mm; Supplier 1: Newark; Supplier Part Number 1: 57M1330; RoHS: FALSE
footprint LT-R-7_N (DPAK, 7-Leads, Body 10.224x8.89mm, Pitch 1.27mm, IPC Medium Density)
footprint LT-R-7_L (DPAK, 7-Leads, Body 10.224x8.89mm, Pitch 1.27mm, IPC High Density)
footprint LT-R-7_M (DPAK, 7-Leads, Body 10.224x8.89mm, Pitch 1.27mm, IPC Low Density)
pins: 1 VIN (power) "The VIN pin is both the supply voltage for internal control circuitry and one end of the high current switch.", 2 VSW (power), 3 ILIM (in) "The ILIM pin is used to reduce current limit below the preset value of 6.5A.", 4 GND (power) "It might seem unusual to describe a ground pin, but in the case of regulators, the ground pin must be connected properly to ensure good load regulation.", 5 FB/SENSE (in) "The feedback pin is the inverting input of an error amplifier which controls the regulator output by adjusting duty cycle.", 6 VC, 7 SHDN (in) "The shutdown pin is used for undervoltage lockout, micropower shutdown, soft-start, delayed start, or as a general purpose on/off control of the regulator output.", 8 TAB (power)

## LT1076CR#PBF
designator U?
Step-Down Switching Regulator, 7-pin DPAK (R-7), 0 to 70 degC, Pb-Free; Manufacturer: Linear Technology; PartNumber: LT1076CR#PBF; Number of Outputs: 1; PackageReference: R-7; PackageDescription: 7-Pin Plastic DD Pak, Body 10.2235 x 8.89 mm, Pitch 1.27 mm; Supplier 1: Digi-Key; Supplier Part Number 1: LT1076CR#PBF-ND; RoHS: TRUE
footprint LT-R-7_N (DPAK, 7-Leads, Body 10.224x8.89mm, Pitch 1.27mm, IPC Medium Density)
footprint LT-R-7_L (DPAK, 7-Leads, Body 10.224x8.89mm, Pitch 1.27mm, IPC High Density)
footprint LT-R-7_M (DPAK, 7-Leads, Body 10.224x8.89mm, Pitch 1.27mm, IPC Low Density)
pins: 1 VIN (power) "The VIN pin is both the supply voltage for internal control circuitry and one end of the high current switch.", 2 VSW (power), 3 ILIM (in) "The ILIM pin is used to reduce current limit below the preset value of 6.5A.", 4 GND (power) "It might seem unusual to describe a ground pin, but in the case of regulators, the ground pin must be connected properly to ensure good load regulation.", 5 FB/SENSE (in) "The feedback pin is the inverting input of an error amplifier which controls the regulator output by adjusting duty cycle.", 6 VC, 7 SHDN (in) "The shutdown pin is used for undervoltage lockout, micropower shutdown, soft-start, delayed start, or as a general purpose on/off control of the regulator output.", 8 TAB (power)

## LT1076CR#TR
designator U?
Step-Down Switching Regulator, 7-pin DPAK (R-7), 0 to 70 degC, Tape and Reel; Manufacturer: Linear Technology; PartNumber: LT1076CR#TR; Number of Outputs: 1; PackageReference: R-7; PackageDescription: 7-Pin Plastic DD Pak, Body 10.2235 x 8.89 mm, Pitch 1.27 mm; Supplier 1: Digi-Key; Supplier Part Number 1: LT1076CR#TR-ND; RoHS: FALSE
footprint LT-R-7_N (DPAK, 7-Leads, Body 10.224x8.89mm, Pitch 1.27mm, IPC Medium Density)
footprint LT-R-7_L (DPAK, 7-Leads, Body 10.224x8.89mm, Pitch 1.27mm, IPC High Density)
footprint LT-R-7_M (DPAK, 7-Leads, Body 10.224x8.89mm, Pitch 1.27mm, IPC Low Density)
pins: 1 VIN (power) "The VIN pin is both the supply voltage for internal control circuitry and one end of the high current switch.", 2 VSW (power), 3 ILIM (in) "The ILIM pin is used to reduce current limit below the preset value of 6.5A.", 4 GND (power) "It might seem unusual to describe a ground pin, but in the case of regulators, the ground pin must be connected properly to ensure good load regulation.", 5 FB/SENSE (in) "The feedback pin is the inverting input of an error amplifier which controls the regulator output by adjusting duty cycle.", 6 VC, 7 SHDN (in) "The shutdown pin is used for undervoltage lockout, micropower shutdown, soft-start, delayed start, or as a general purpose on/off control of the regulator output.", 8 TAB (power)

## LT1076CR#TRPBF
designator U?
Step-Down Switching Regulator, 7-pin DPAK (R-7), 0 to 70 degC, Pb-Free, Tape and Reel; Manufacturer: Linear Technology; PartNumber: LT1076CR#TRPBF; Number of Outputs: 1; PackageReference: R-7; PackageDescription: 7-Pin Plastic DD Pak, Body 10.2235 x 8.89 mm, Pitch 1.27 mm; Supplier 1: Digi-Key; Supplier Part Number 1: LT1076CR#TRPBF-ND; RoHS: TRUE
footprint LT-R-7_N (DPAK, 7-Leads, Body 10.224x8.89mm, Pitch 1.27mm, IPC Medium Density)
footprint LT-R-7_L (DPAK, 7-Leads, Body 10.224x8.89mm, Pitch 1.27mm, IPC High Density)
footprint LT-R-7_M (DPAK, 7-Leads, Body 10.224x8.89mm, Pitch 1.27mm, IPC Low Density)
pins: 1 VIN (power) "The VIN pin is both the supply voltage for internal control circuitry and one end of the high current switch.", 2 VSW (power), 3 ILIM (in) "The ILIM pin is used to reduce current limit below the preset value of 6.5A.", 4 GND (power) "It might seem unusual to describe a ground pin, but in the case of regulators, the ground pin must be connected properly to ensure good load regulation.", 5 FB/SENSE (in) "The feedback pin is the inverting input of an error amplifier which controls the regulator output by adjusting duty cycle.", 6 VC, 7 SHDN (in) "The shutdown pin is used for undervoltage lockout, micropower shutdown, soft-start, delayed start, or as a general purpose on/off control of the regulator output.", 8 TAB (power)

## LT1076CR-5
designator U?
Step-Down Switching Regulator, 7-pin DPAK (R-7), 0 to 70 degC; Manufacturer: Linear Technology; PartNumber: LT1076CR-5; Number of Outputs: 1; PackageReference: R-7; PackageDescription: 7-Pin Plastic DD Pak, Body 10.2235 x 8.89 mm, Pitch 1.27 mm; Supplier 1: Digi-Key; Supplier Part Number 1: LT1076CR-5-ND; RoHS: FALSE
footprint LT-R-7_N (DPAK, 7-Leads, Body 10.224x8.89mm, Pitch 1.27mm, IPC Medium Density)
footprint LT-R-7_L (DPAK, 7-Leads, Body 10.224x8.89mm, Pitch 1.27mm, IPC High Density)
footprint LT-R-7_M (DPAK, 7-Leads, Body 10.224x8.89mm, Pitch 1.27mm, IPC Low Density)
pins: 1 VIN (power), 2 VSW (power), 3 ILIM (in), 4 GND (power), 5 SENSE (in), 6 VC, 7 SHDN (in), 8 TAB (power)

## LT1076CR-5#PBF
designator U?
Step-Down Switching Regulator, 7-pin DPAK (R-7), 0 to 70 degC, Pb-Free; Manufacturer: Linear Technology; PartNumber: LT1076CR-5#PBF; Number of Outputs: 1; PackageReference: R-7; PackageDescription: 7-Pin Plastic DD Pak, Body 10.2235 x 8.89 mm, Pitch 1.27 mm; Supplier 1: Digi-Key; Supplier Part Number 1: LT1076CR-5#PBF-ND; RoHS: TRUE
footprint LT-R-7_N (DPAK, 7-Leads, Body 10.224x8.89mm, Pitch 1.27mm, IPC Medium Density)
footprint LT-R-7_L (DPAK, 7-Leads, Body 10.224x8.89mm, Pitch 1.27mm, IPC High Density)
footprint LT-R-7_M (DPAK, 7-Leads, Body 10.224x8.89mm, Pitch 1.27mm, IPC Low Density)
pins: 1 VIN (power), 2 VSW (power), 3 ILIM (in), 4 GND (power), 5 SENSE (in), 6 VC, 7 SHDN (in), 8 TAB (power)

## LT1076CR-5#TR
designator U?
Step-Down Switching Regulator, 7-pin DPAK (R-7), 0 to 70 degC, Tape and Reel; Manufacturer: Linear Technology; PartNumber: LT1076CR-5#TR; Number of Outputs: 1; PackageReference: R-7; PackageDescription: 7-Pin Plastic DD Pak, Body 10.2235 x 8.89 mm, Pitch 1.27 mm; Supplier 1: Digi-Key; Supplier Part Number 1: LT1076CR-5#TR-ND; RoHS: FALSE
footprint LT-R-7_N (DPAK, 7-Leads, Body 10.224x8.89mm, Pitch 1.27mm, IPC Medium Density)
footprint LT-R-7_L (DPAK, 7-Leads, Body 10.224x8.89mm, Pitch 1.27mm, IPC High Density)
footprint LT-R-7_M (DPAK, 7-Leads, Body 10.224x8.89mm, Pitch 1.27mm, IPC Low Density)
pins: 1 VIN (power), 2 VSW (power), 3 ILIM (in), 4 GND (power), 5 SENSE (in), 6 VC, 7 SHDN (in), 8 TAB (power)

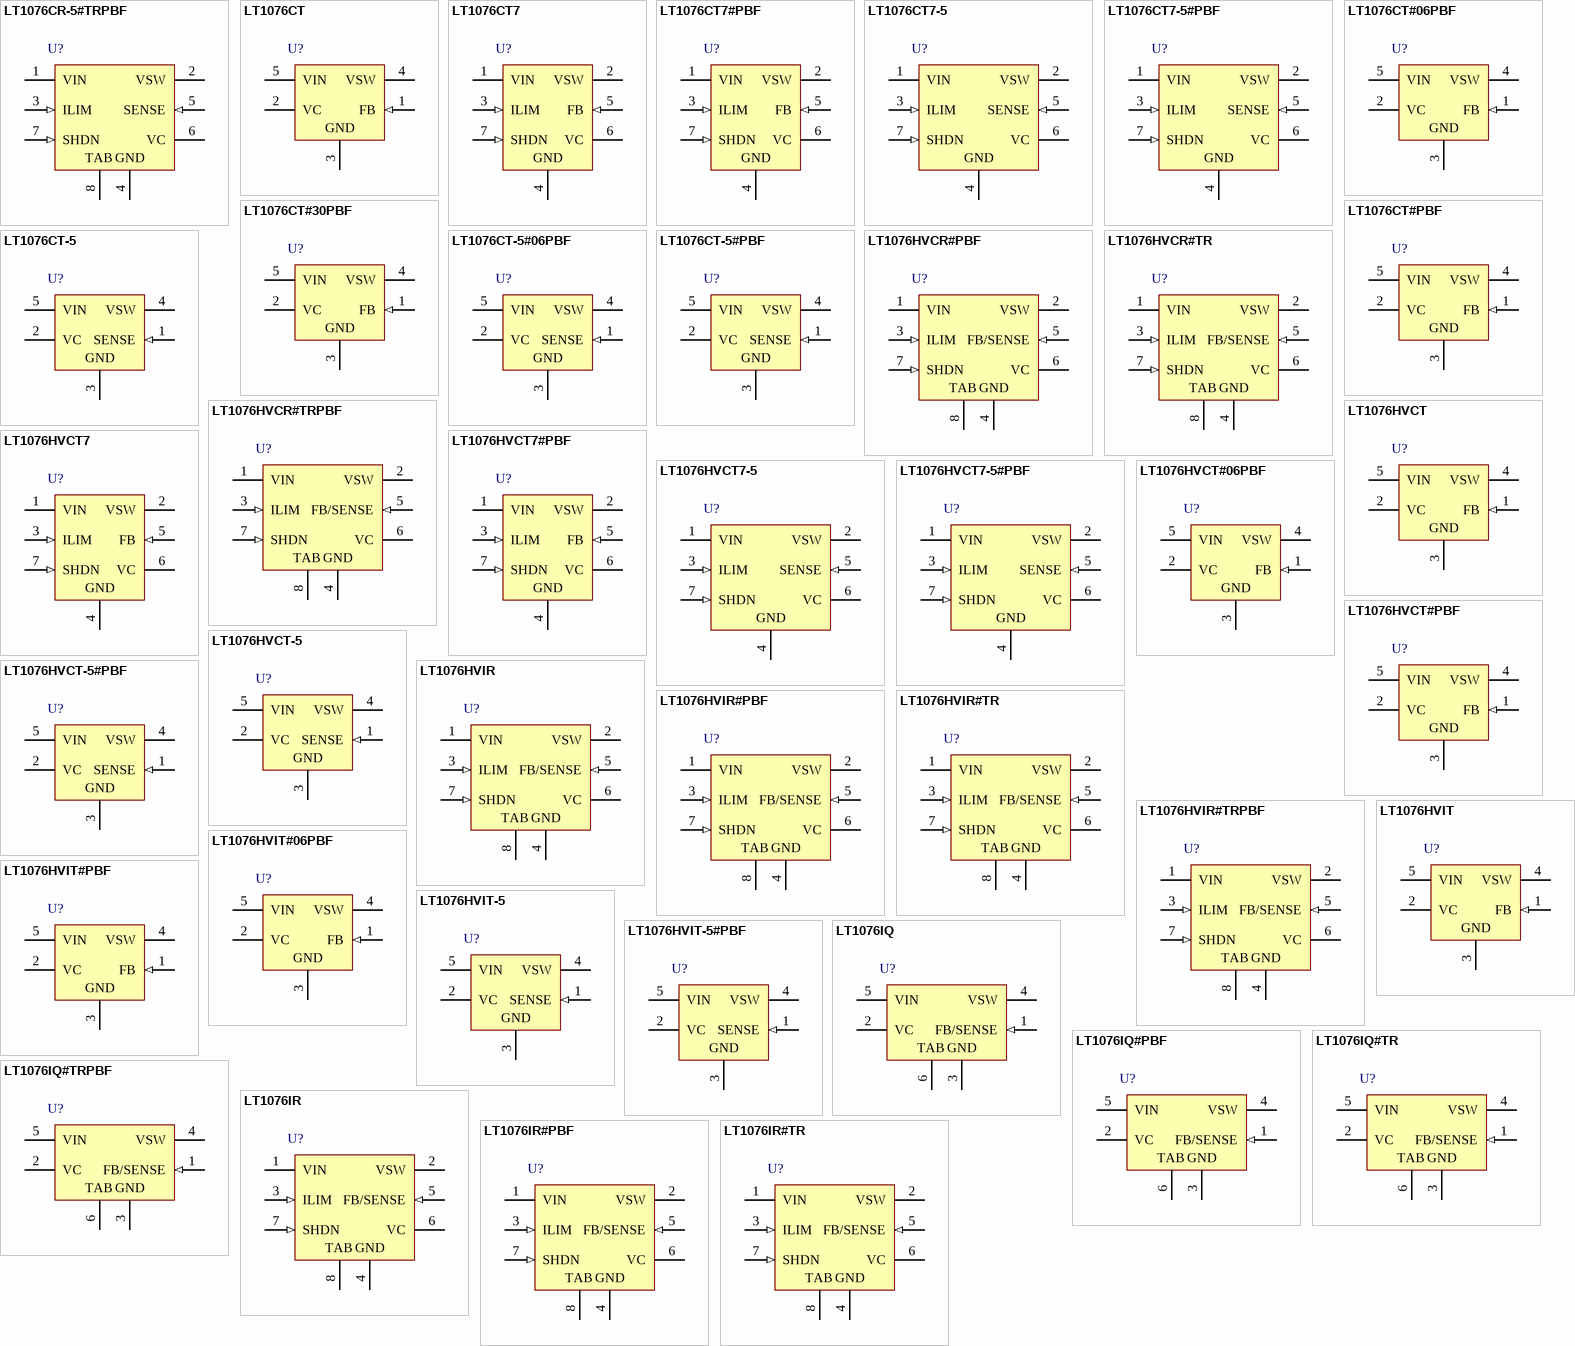
[diagram p1: symbols LT1076CR-5#TRPBF to LT1076IR#TR]

## LT1076CR-5#TRPBF
designator U?
Step-Down Switching Regulator, 7-pin DPAK (R-7), 0 to 70 degC, Pb-Free, Tape and Reel; Manufacturer: Linear Technology; PartNumber: LT1076CR-5#TRPBF; Number of Outputs: 1; PackageReference: R-7; PackageDescription: 7-Pin Plastic DD Pak, Body 10.2235 x 8.89 mm, Pitch 1.27 mm; Supplier 1: Digi-Key; Supplier Part Number 1: LT1076CR-5#TRPBF-ND; RoHS: TRUE
footprint LT-R-7_N (DPAK, 7-Leads, Body 10.224x8.89mm, Pitch 1.27mm, IPC Medium Density)
footprint LT-R-7_L (DPAK, 7-Leads, Body 10.224x8.89mm, Pitch 1.27mm, IPC High Density)
footprint LT-R-7_M (DPAK, 7-Leads, Body 10.224x8.89mm, Pitch 1.27mm, IPC Low Density)
pins: 1 VIN (power), 2 VSW (power), 3 ILIM (in), 4 GND (power), 5 SENSE (in), 6 VC, 7 SHDN (in), 8 TAB (power)

## LT1076CT
designator U?
Step-Down Switching Regulator, 5-pin FM (T-5), 0 to 70 degC; Manufacturer: Linear Technology; PartNumber: LT1076CT; Number of Outputs: 1; PackageReference: T-5; PackageDescription: 5-Pin Plastic TO-220 (Standard), Body 10.224 x 8.89 mm, Pitch 1.7 mm; Supplier 1: Digi-Key; Supplier Part Number 1: LT1076CT-ND; RoHS: FALSE
footprint LT-T-5-S (FM, 5-Leads, Body 10.55x4.6mm, Pitch 1.7mm)
pins: 1 FB (in) "The feedback pin is the inverting input of an error amplifier which controls the regulator output by adjusting duty cycle. The noninverting input is internally connected to a trimmed 2.21V reference. Input bias current is (See Datasheet)", 2 VC, 3 GND (power) "It might seem unusual to describe a ground pin, but in the case of regulators, the ground pin must be connected properly to ensure good load regulation. The internal reference voltage is referenced to the ground pin; so any (See Datasheet)", 4 VSW (power), 5 VIN (power) "The VIN pin is both the supply voltage for internal control circuitry and one end of the high current switch. It is important, especially at low input voltages, that this pin be bypassed with a low ESR, and low inductance (See Datasheet)"

## LT1076CT7
designator U?
Step-Down Switching Regulator, 7-pin FM (T7-7), 0 to 70 degC; Manufacturer: Linear Technology; PartNumber: LT1076CT7; Number of Outputs: 1; PackageReference: T7-7; PackageDescription: 7-Pin Plastic TO-220 (Straight Lead), Body 10.224 x 4.382 mm, Pitch 1.27 mm; Supplier 1: Digi-Key; Supplier Part Number 1: LT1076CT7-ND; RoHS: FALSE
footprint LT-T7-7-S_V (FM, 7-Leads, Body 10.55x4.6mm, Pitch 1.27mm)
pins: 1 VIN (power) "The VIN pin is both the supply voltage for internal control circuitry and one end of the high current switch.", 2 VSW (power), 3 ILIM (in) "The ILIM pin is used to reduce current limit below the preset value of 6.5A.", 4 GND (power) "It might seem unusual to describe a ground pin, but in the case of regulators, the ground pin must be connected properly to ensure good load regulation.", 5 FB (in) "The feedback pin is the inverting input of an error amplifier which controls the regulator output by adjusting duty cycle.", 6 VC, 7 SHDN (in) "The shutdown pin is used for undervoltage lockout, micropower shutdown, soft-start, delayed start, or as a general purpose on/off control of the regulator output."